# EAGLE library part 418217270903A (library WS-DITU)
WS-DITU Compact THT Right Angled with Raised Actuator 2.54 mm Mechanical Properties Operation Force:800 g Electrical Life:2000 Cycles Actuator Type:Raise Type Properties IR:25 mA VR:24 V (DC) IR:100 mA VR:50 V (DC) Contact Resistance Initial:50 mΩ Contact Resistance After Life Test:100 mΩ RISO:100 MΩ Withstanding Voltage:500 V (AC) Actuator Type:Raise Type Material Properties Cover Material:PBT Cover Flammability Rating:UL94 V-0 Cover Color:Red Base Material:PBT Base Flammability Rating:UL94 V-0 Base Color:Black Actuator Material:PBT Actuator Flammability Rating:UL94 V-0 Actuator Color:White Contact Material:Copper Alloy Contact Plating:Gold Terminal Material:Copper Alloy Terminal Plating:Gold General Information Operating Temperature:-40 up to +85 °C Packaging Properties Packaging:Tube <https://www.we-online.com/catalog/media/o93597v209%20Family_DITU_2_54_COMPACT_THT_RIGHT_ANGLED_WITH_RAISED_ACTUATOR_A_TYPE.jpg> Details see: https://www.we-online.com/catalog/en/DITU_2_54_COMPACT_THT_RIGHT_ANGLED_WITH_RAISED_ACTUATOR_A_TYPE/ Updated by Yingchun, Shan 2020-01-23 2020 (C) Würth Elektronik
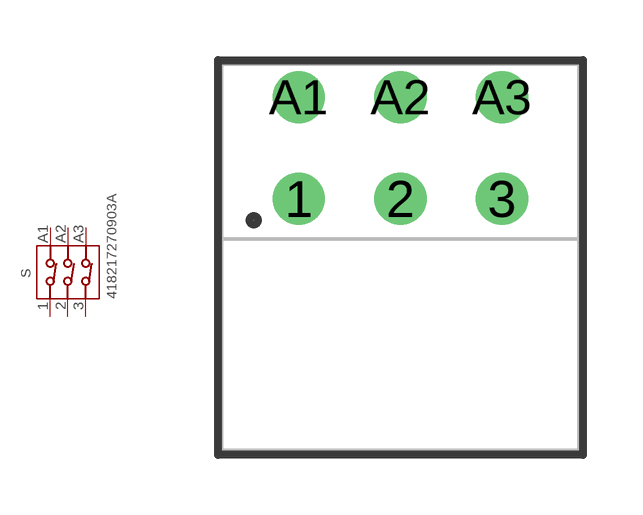
[diagram p4: symbol with the pads of 418217270903A; footprint 418217270903A]

Designator prefix S

## 418217270903A (DATASHEET-URL: https://www.we-online.com/catalog/datasheet/418217270903A.pdf; PART-NUMBER: 418217270903A; PINS: 3; QTY: 56)  [418217270903A]
1  1  pas
2  2  pas
3  3  pas
A1  A1  pas
A2  A2  pas
A3  A3  pas

## Footprint 418217270903A (pad centres in mm)
WS-DITU Compact THT Right Angled with Raised Actuator 2.54 mm,3Poles
drill 0.8: 1 -2.54,1.46; 2 0,1.46; 3 2.54,1.46; A1 -2.54,4; A2 0,4; A3 2.54,4